# EAGLE library part ADC_ADS7924 (library microbuilder)
ADS7924 - 12-bit 4-Channel I2C ADC AVDD: 2.2-5.5V DVDD: 1.65V-5.5V Sampling Rate: 100ksps I2C Address: ADDR low = 1001000x, ADDR DVDD = 1001001x Digital Threshold Comparators The ADS794 is a relatively low-power device and can be useful in certain low-power scenarios since it can be configured to regularly check the voltage on the analog input pins, and throw an interrupt or pull an MCU out of reset when a specific condition is met. Each of the four inputs has it's own programmable threshold level. It could be used to monitor the input level of solar or other ambient energy sources, and when the level is sufficiently high, wakeup the MCU to perform read some sensor data, etc., or wait until a supercap is charged to a sufficiently high level before waking the MCU.
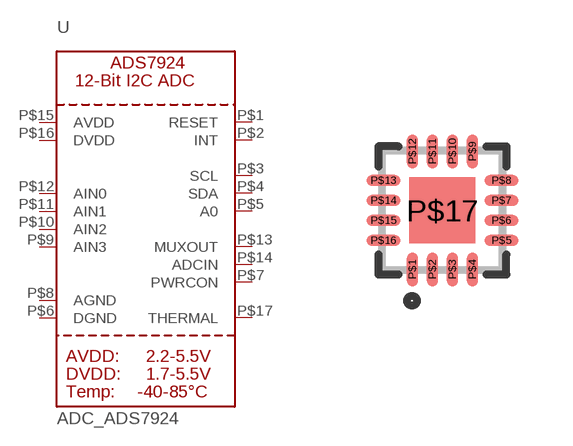
[diagram p191: symbol with the pads of WQFN16; footprint WQFN16]

Designator prefix U

## ADC_ADS7924  [WQFN16]
P$1  RESET
P$2  INT
P$3  SCL
P$4  SDA
P$5  A0
P$6  DGND
P$7  PWRCON
P$8  AGND
P$9  AIN3
P$10  AIN2
P$11  AIN1
P$12  AIN0
P$13  MUXOUT
P$14  ADCIN
P$15  AVDD
P$16  DVDD
P$17  THERMAL

## Footprint WQFN16 (pad centres in mm)
16-PWQFN 3.0x3.0mm Source: http://www.ti.com/lit/ds/symlink/ads7924.pdf
smd 0.28 x 0.85: P$1 -0.75,-1.475; P$2 -0.25,-1.475; P$3 0.25,-1.475; P$4 0.75,-1.475; P$9 0.75,1.475; P$10 0.25,1.475; P$11 -0.25,1.475; P$12 -0.75,1.475
smd 0.85 x 0.28: P$5 1.475,-0.75; P$6 1.475,-0.25; P$7 1.475,0.25; P$8 1.475,0.75; P$13 -1.475,0.75; P$14 -1.475,0.25; P$15 -1.475,-0.25; P$16 -1.475,-0.75
smd 1.65 x 1.65: P$17 0,0